# Altium footprint library WCAM-BREAKOUT-PCB-R03.PcbLib: 19 footprints (part 1 of 2)
Each footprint in its own frame and in the unit in brackets; x right, y up, seen from the top. Pads: shape width x height; smd on the part's side, far side on the other; paste and mask are expansions set on the pad; w line width, h text height; cw(c..) or ccw(c..) is an arc to the next point about the centre after c.
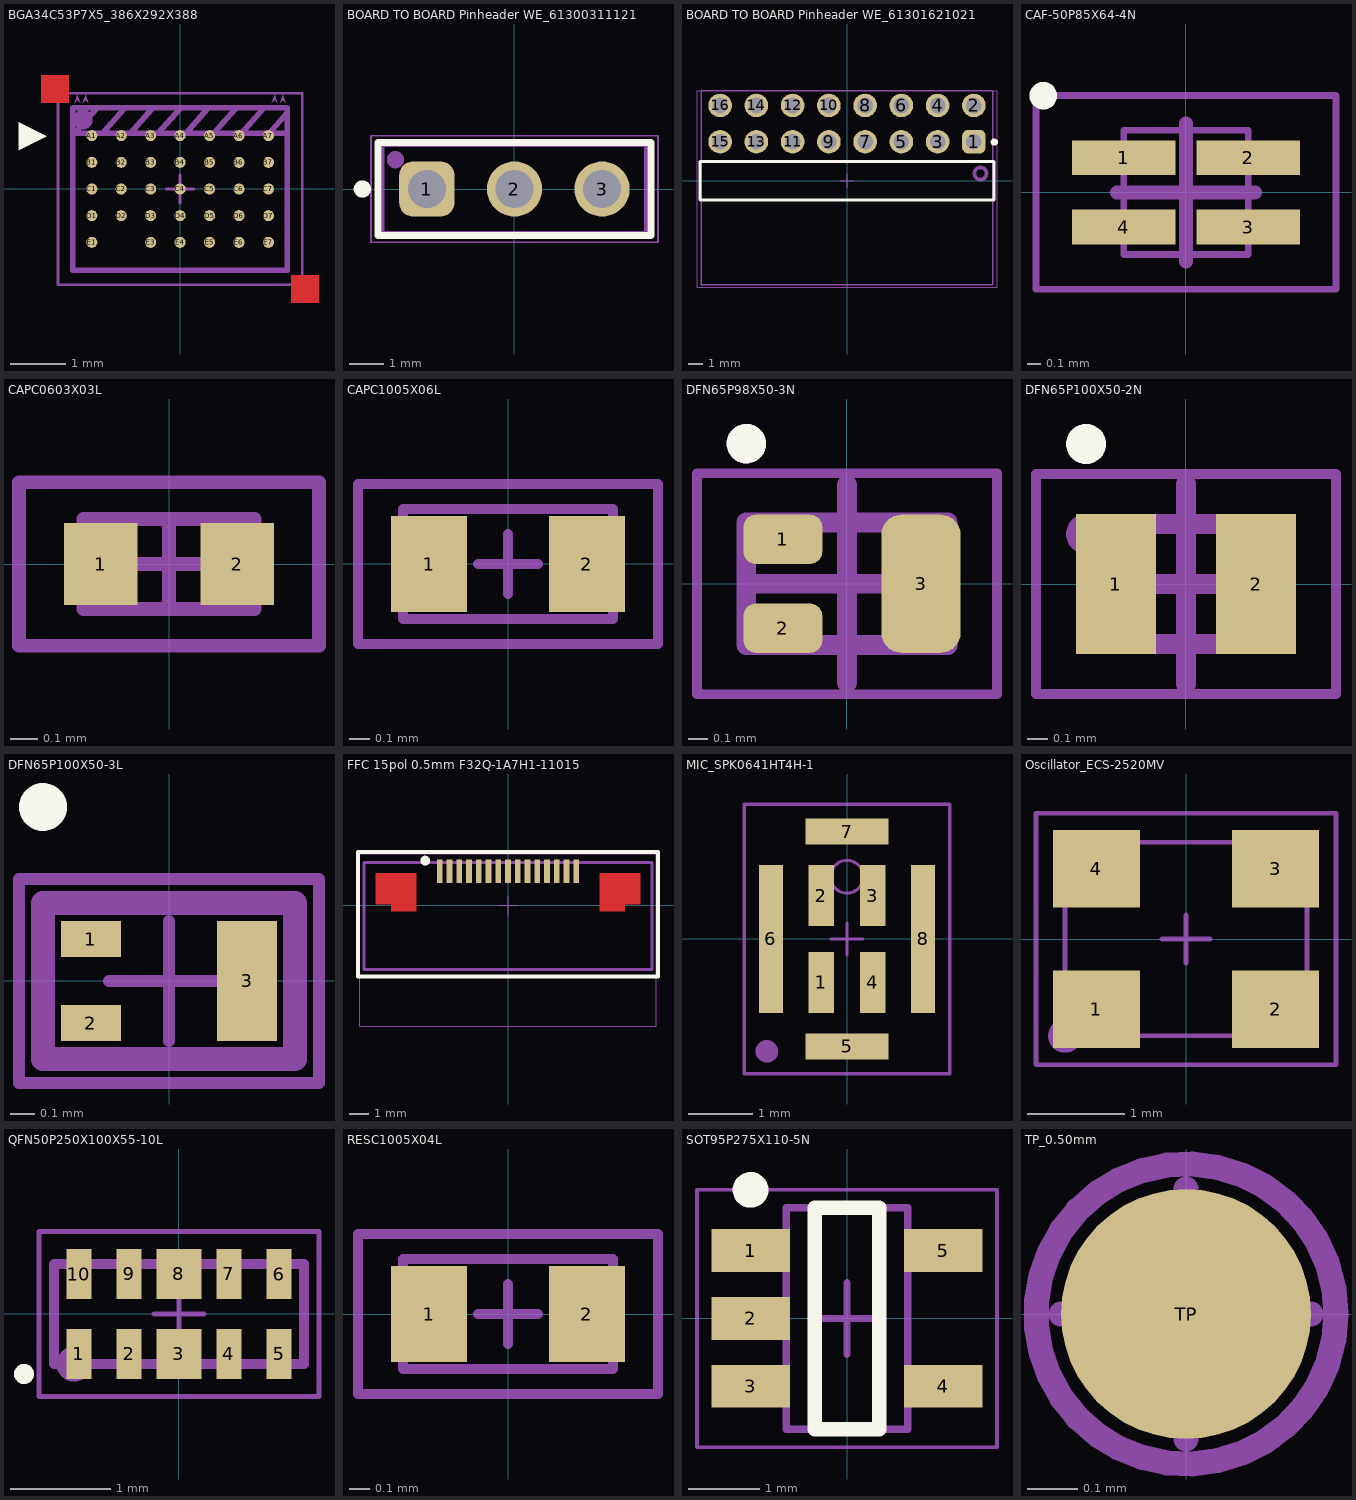
[diagram p0: the footprints below, top view; thin cyan lines are the x and y axes]

## BGA34C53P7X5_386X292X388 [mm] "BGA, 34-Leads, Body 3,86x2,92mmx3,88mm, Pitch 0,53mm"
height 3.88
pads (34):
  round 0.2 smd: A1(-1.59,0.96) A2(-1.06,0.96) A3(-0.53,0.96) A4(0,0.96) A5(0.53,0.96) A6(1.06,0.96) A7(1.59,0.96) B1(-1.59,0.48) B2(-1.06,0.48) B3(-0.53,0.48) B4(0,0.48) B5(0.53,0.48) B6(1.06,0.48) B7(1.59,0.48) C1(-1.59,0) C2(-1.06,0) C3(-0.53,0) C4(0,0) C5(0.53,0) C6(1.06,0) C7(1.59,0) D1(-1.59,-0.48) D2(-1.06,-0.48) D3(-0.53,-0.48) D4(0,-0.48) D5(0.53,-0.48) D6(1.06,-0.48) D7(1.59,-0.48) E1(-1.59,-0.96) E3(-0.53,-0.96) E4(0,-0.96) E5(0.53,-0.96) E6(1.06,-0.96) E7(1.59,-0.96)
Top Layer:
  region: -2.5,2.05 -2.5,1.55 -2,1.55 -2,2.05
  region: 2,-1.55 2,-2.05 2.5,-2.05 2.5,-1.55
Top Overlay:
  region: -2.4,0.95 -2.9,1.2 -2.9,0.7
Top 3D Body:
  region: 1.7,1.7 1.75,1.55 1.7,1.6 1.65,1.55
  region: 1.85,1.7 1.9,1.55 1.85,1.6 1.8,1.55
  region: -1.7,1.7 -1.75,1.55 -1.7,1.6 -1.65,1.55
  region: -1.85,1.7 -1.9,1.55 -1.85,1.6 -1.8,1.55
  lines w0.1: -1.5,1.45 -1.9,1 1.93,1 ; -1.4,1 -1,1.45 ; -0.9,1 -0.5,1.45 ; -0.4,1 0,1.45 ; 0.1,1 0.5,1.45 ; 0.6,1 1,1.45 ; 1.1,1 1.5,1.45 ; 1.6,1 1.93,1.371 ; -1.93,-1.46 1.93,-1.46 1.93,1.46 -1.93,1.46 -1.93,-1.46
  text "PLACE TOWARS BOTTOM PCB EDGE" at 1.6,1.7 h0.2
Top Courtyard:
  lines w0.05: -0.25,0 0.25,0 ; 0,-0.25 0,0.25 ; -2.2,-1.725 2.2,-1.725 2.2,1.725 -2.2,1.725 -2.2,-1.725
Top Assembly:
  circle w0.25: c-1.75,1.25 r0.05
  lines w0.05: -2.2,-1.725 2.2,-1.725 2.2,1.725 -2.2,1.725 -2.2,-1.725
  text ".Designator" at -1.6,-0.4 h1
3D body "Image Sensor OV2740.stp": height 0.72, standoff 0, extent -1.93,-1.46 1.925,1.459

## BOARD TO BOARD Pinheader WE_61300311121 [mm] "Pin Header, pitch 2.54 mm, THT, Vertical, single row, 3p"
height 8.54
pads (3):
  rrect50% 1.6x1.6 hole 1.1: 1(-2.54,0)
  round 1.6 hole 1.1: 2(0,0) 3(2.54,0)
Top Overlay:
  circle w0.25: c-4.41,0 r0.125
  lines w0.2: -3.96,-1.345 3.96,-1.345 3.96,1.345 -3.96,1.345 -3.96,-1.345
Top Courtyard:
  lines w0.05: -0.5,0 0.5,0 ; 0,-0.5 0,0.5 ; -4.16,-1.545 -4.16,1.545 4.16,1.545 4.16,-1.545 -4.16,-1.545
Top Assembly:
  circle w0.25: c-3.45,0.85 r0.125
  lines w0.1: -3.81,-1.27 -3.81,1.27 3.81,1.27 3.81,-1.27 -3.81,-1.27
  text ".Designator" at -7.498,-0.5 h1.5
3D body "61300311121.stp": height 8.57, standoff -2.97, extent -3.81,-1.27 3.81,1.27

## BOARD TO BOARD Pinheader WE_61301621021 [mm] "Pin Header, pitch 2.54 mm, THT, Angled, dual row, 16p"
height 5.08
pads (16):
  rrect50% 1.65x1.65 hole 1.1: 1(8.89,2.73)
  round 1.65 hole 1.1: 2(8.89,5.27) 3(6.35,2.73) 4(6.35,5.27) 5(3.81,2.73) 6(3.81,5.27) 7(1.27,2.73) 8(1.27,5.27) 9(-1.27,2.73) 10(-1.27,5.27) 11(-3.81,2.73) 12(-3.81,5.27) 13(-6.35,2.73) 14(-6.35,5.27) 15(-8.89,2.73) 16(-8.89,5.27)
Top Overlay:
  circle w0.25: c10.32,2.7 r0.125
  lines w0.2: -10.31,-1.345 10.31,-1.345 10.31,1.345 -10.31,1.345 -10.31,-1.345
Top Courtyard:
  lines w0.05: -0.5,0 0.5,0 ; 0,-0.5 0,0.5 ; -10.51,-7.47 -10.51,6.295 10.51,6.295 10.51,-7.47 -10.51,-7.47
Top Assembly:
  circle w0.254: c9.35,0.5 r0.424
  lines w0.1: -10.2,-7.3 -10.2,6.3 10.2,6.3 10.2,-7.3 -10.2,-7.3
  text ".Designator" at 7.498,-0.5 h1.5
3D body "61301621021.stp": height 5.12, standoff -2.96, extent -10.16,-7.27 10.16,5.63

## CAF-50P85X64-4N [mm] "Chip Array, Flat, 4-Leads, Pitch 0,50mm,  Body 0,85x0,65mm,  IPC Medium Density"
height 0.5
pads (4):
  rect 0.75x0.25 smd: 1(-0.45,0.25) 2(0.45,0.25) 3(0.45,-0.25) 4(-0.45,-0.25)
Top Overlay:
  circle w0.1: c-1.032,0.7 r0.05
Top Courtyard:
  lines w0.05: -1.085,-0.7 1.085,-0.7 1.085,0.7 -1.085,0.7 -1.085,-0.7
  lines w0.1: -0.5,0 0.5,0 ; 0,-0.5 0,0.5
Top Assembly:
  circle w0.1: c-0.65,0.25 r0.05
  lines w0.05: -0.45,-0.45 0.45,-0.45 0.45,0.45 -0.45,0.45 -0.45,-0.45
  text ".Designator" at -0.574,-0.414 h0.25
3D body "CAF-50P85X64-4N.step": height 0.5, standoff 0, extent -0.4,-0.45 0.4,0.45

## CAPC0603X03L [mm] "Chip Capacitor, 2-Leads, Body 0,60x0,30mm, IPC High Density"
height 0.33
pads (2):
  rect 0.27x0.3 smd paste-0.5: 1(-0.25,0) 2(0.25,0)
Top Paste:
  region: 0.25,-0.13 0.224,-0.13 0.176,-0.111 0.139,-0.074 0.12,-0.026 0.12,0 0.12,0.026 0.139,0.074 0.176,0.111 0.224,0.13 0.25,0.13 0.276,0.13 0.324,0.111 0.361,0.074 0.38,0.026 0.38,0 0.38,-0.026 0.361,-0.074 0.324,-0.111 0.276,-0.13
  region: -0.25,-0.13 -0.276,-0.13 -0.324,-0.111 -0.361,-0.074 -0.38,-0.026 -0.38,0 -0.38,0.026 -0.361,0.074 -0.324,0.111 -0.276,0.13 -0.25,0.13 -0.224,0.13 -0.176,0.111 -0.139,0.074 -0.12,0.026 -0.12,0 -0.12,-0.026 -0.139,-0.074 -0.176,-0.111 -0.224,-0.13
Top 3D Body:
  lines w0.05: -0.315,-0.165 0.315,-0.165 0.315,0.165 -0.315,0.165 -0.315,-0.165
Top Courtyard:
  lines w0.05: -0.15,0 0,0 ; 0,-0.15 0,0 ; 0,0.15 0,0 ; 0.15,0 0,0 ; -0.55,-0.3 0.55,-0.3 0.55,0.3 -0.55,0.3 -0.55,-0.3
Top Assembly:
  lines w0.05: -0.55,-0.3 -0.55,0.3 0.55,0.3 0.55,-0.3 -0.55,-0.3
  text ".Designator" at 0.7,0.1 h0.3
3D body "CAP_0201_m0603.stp": height 0.3, standoff 0, extent -0.3,-0.15 0.3,0.15

## CAPC1005X06L [mm] "Chip Capacitor, 2-Leads, Body 1,00x0,50mm, IPC High Density"
height 0.55
pads (2):
  rect 0.38x0.48 smd: 1(-0.395,0) 2(0.395,0)
Top 3D Body:
  lines w0.05: -0.525,-0.275 -0.525,0.275 0.525,0.275 0.525,-0.275 -0.525,-0.275
Top Courtyard:
  lines w0.05: -0.15,0 0.15,0 ; 0,-0.15 0,0.15 ; -0.75,-0.4 -0.75,0.4 0.75,0.4 0.75,-0.4 -0.75,-0.4
Top Assembly:
  lines w0.05: -0.75,-0.4 -0.75,0.4 0.75,0.4 0.75,-0.4 -0.75,-0.4
  text ".Designator" at -1.143,-0.207 h0.5
3D body "CAP_0402_m1005.stp": height 0.5, standoff 0, extent -0.5,-0.25 0.5,0.25

## DFN65P98X50-3N [mm] "DFN, 3-Leads, Body 0,59x0,99mm, Pitch 0,65mm, IPC Medium Density"
height 0.5
pads (3):
  rrect50% 0.4x0.25 smd paste-2539.97 mask-2539.97: 1(-0.325,0.225) 2(-0.325,-0.225)
  rrect50% 0.4x0.7 smd paste-2539.97 mask-2539.97: 3(0.375,0)
Top Overlay:
  circle w0.1: c-0.51,0.71 r0.05
Top Paste:
  region: -0.412,-0.35 -0.425,-0.35 -0.448,-0.34 -0.465,-0.323 -0.475,-0.3 -0.475,-0.288 -0.475,-0.162 -0.475,-0.15 -0.465,-0.127 -0.448,-0.11 -0.425,-0.1 -0.412,-0.1 -0.237,-0.1 -0.225,-0.1 -0.202,-0.11 -0.185,-0.127 -0.175,-0.15 -0.175,-0.162 -0.175,-0.288 -0.175,-0.3 -0.185,-0.323 -0.202,-0.34 -0.225,-0.35 -0.237,-0.35
  region: -0.412,0.1 -0.425,0.1 -0.448,0.11 -0.465,0.127 -0.475,0.15 -0.475,0.162 -0.475,0.288 -0.475,0.3 -0.465,0.323 -0.448,0.34 -0.425,0.35 -0.412,0.35 -0.237,0.35 -0.225,0.35 -0.202,0.34 -0.185,0.323 -0.175,0.3 -0.175,0.288 -0.175,0.162 -0.175,0.15 -0.185,0.127 -0.202,0.11 -0.225,0.1 -0.237,0.1
  region: 0.175,-0.2 0.175,0.2 0.175,0.22 0.19,0.257 0.218,0.285 0.255,0.3 0.275,0.3 0.475,0.3 0.495,0.3 0.532,0.285 0.56,0.257 0.575,0.22 0.575,0.2 0.575,-0.2 0.575,-0.22 0.56,-0.257 0.532,-0.285 0.495,-0.3 0.475,-0.3 0.275,-0.3 0.255,-0.3 0.218,-0.285 0.19,-0.257 0.175,-0.22
Top Solder:
  region: -0.55,-0.375 -0.55,-0.075 -0.1,-0.075 -0.1,-0.375
  region: -0.55,0.075 -0.55,0.375 -0.1,0.375 -0.1,0.075
  region: 0.15,-0.375 0.15,0.375 0.6,0.375 0.6,-0.375
Top Courtyard:
  lines w0.05: -0.76,-0.56 -0.76,0.56 0.76,0.56 0.76,-0.56 -0.76,-0.56
  lines w0.1: -0.5,0 0.5,0 ; 0,-0.5 0,0.5 ; -0.51,-0.31 -0.51,0.31 0.51,0.31 0.51,-0.31 -0.51,-0.31
Top Assembly:
  circle w0.1: c-0.51,0.71 r0.05
  lines w0.05: -0.76,-0.56 -0.76,0.56 0.76,0.56 0.76,-0.56 -0.76,-0.56
  text ".Designator" at 1.148,0.208 h0.5
3D body "DFN65P98X50-3N.step": height 0.5, standoff 0, extent -0.51,-0.31 0.51,0.31

## DFN65P100X50-2N [mm] "DFN, 2-Leads, Body 0,60x1,00mm, Pitch 0,65mm, IPC Medium Density"
height 0.5
pads (2):
  rect 0.4x0.7 smd: 1(-0.35,0) 2(0.35,0)
Top Overlay:
  circle w0.1: c-0.5,0.7 r0.05
Top 3D Body:
  lines w0.1: -0.5,-0.3 -0.5,0.3 0.5,0.3 0.5,-0.3 -0.5,-0.3
Top Courtyard:
  lines w0.05: -0.75,-0.55 -0.75,0.55 0.75,0.55 0.75,-0.55 -0.75,-0.55
  lines w0.1: -0.5,0 0.5,0 ; 0,-0.5 0,0.5
Top Assembly:
  circle w0.1: c-0.5,0.25 r0.05
  lines w0.05: -0.75,-0.55 0.75,-0.55 ; -0.75,-0.55 -0.75,0.55 ; -0.75,-0.55 0.75,-0.55 ; -0.75,-0.55 -0.75,0.55 ; -0.75,0.55 0.75,0.55 ; -0.75,0.55 0.75,0.55 ; 0.75,-0.55 0.75,0.55 ; 0.75,-0.55 0.75,0.55
  text ".Designator" at -1.25,-0.083 h0.25
3D body "DFN65P100X50-2N.step": height 0.5, standoff 0, extent -0.5,-0.3 0.5,0.3

## DFN65P100X50-3L [mm] "DFN, 3-Leads, Body 0,60x1,00mm, Pitch 0,65mm, IPC High Density"
height 0.5
pads (3):
  rect 0.25x0.15 smd paste-2539.97 mask+0.05: 1(-0.325,0.175) 2(-0.325,-0.175)
  rect 0.25x0.5 smd paste-2539.97 mask+0.05: 3(0.325,0)
Top Overlay:
  circle w0.1: c-0.525,0.725 r0.05
Top Paste:
  region: 0.209,-0.159 0.209,0.159 0.209,0.167 0.215,0.182 0.227,0.194 0.242,0.2 0.25,0.2 0.4,0.2 0.408,0.2 0.423,0.194 0.435,0.182 0.441,0.167 0.441,0.159 0.441,-0.159 0.441,-0.167 0.435,-0.182 0.423,-0.194 0.408,-0.2 0.4,-0.2 0.25,-0.2 0.242,-0.2 0.227,-0.194 0.215,-0.182 0.209,-0.167
  region: -0.45,0.15 -0.45,0.2 -0.45,0.21 -0.442,0.228 -0.428,0.242 -0.41,0.25 -0.4,0.25 -0.25,0.25 -0.24,0.25 -0.222,0.242 -0.208,0.228 -0.2,0.21 -0.2,0.2 -0.2,0.15 -0.2,0.14 -0.208,0.122 -0.222,0.108 -0.24,0.1 -0.25,0.1 -0.4,0.1 -0.41,0.1 -0.428,0.108 -0.442,0.122 -0.45,0.14
  region: -0.45,-0.2 -0.45,-0.15 -0.45,-0.14 -0.442,-0.122 -0.428,-0.108 -0.41,-0.1 -0.4,-0.1 -0.25,-0.1 -0.24,-0.1 -0.222,-0.108 -0.208,-0.122 -0.2,-0.14 -0.2,-0.15 -0.2,-0.2 -0.2,-0.21 -0.208,-0.228 -0.222,-0.242 -0.24,-0.25 -0.25,-0.25 -0.4,-0.25 -0.41,-0.25 -0.428,-0.242 -0.442,-0.228 -0.45,-0.21
Top 3D Body:
  lines w0.1: -0.525,-0.325 -0.525,0.325 0.525,0.325 0.525,-0.325 -0.525,-0.325
Top Courtyard:
  lines w0.05: -0.25,0 0.25,0 ; 0,-0.25 0,0.25 ; -0.625,-0.425 -0.625,0.425 0.625,0.425 0.625,-0.425 -0.625,-0.425
Top Assembly:
  lines w0.05: -0.625,-0.425 0.625,-0.425 0.625,0.425 -0.625,0.425 -0.625,-0.425
  text ".Designator" at 1.173,0.158 h0.5
3D body "CST3.stp": height 0.38, standoff 0, extent -0.5,-0.3 0.5,0.3

## FFC 15pol 0.5mm F32Q-1A7H1-11015 [mm] "Flex Connector, 0.50mm Pitch, Height 2.00mm, Right angle, Slider type, ZIF, Upper contact, 15 position , Without MYLAR"
height 10.45
pads (17):
  rect 0.3x1.2 smd: 1(-3.5,1.75) 2(-3,1.75) 3(-2.5,1.75) 4(-2,1.75) 5(-1.5,1.75) 6(-1,1.75) 7(-0.5,1.75) 8(0,1.75) 9(0.5,1.75) 10(1,1.75) 11(1.5,1.75) 12(2,1.75) 13(2.5,1.75) 14(3,1.75) 15(3.5,1.75)
  round 0.025 smd: MT(-5.75,0.675) MT(5.75,0.675)
Top Layer:
  region: 4.7,-0.3 4.7,1.65 6.8,1.65 6.8,0.05 6,0.05 6,-0.3
  region: -6.8,0.05 -6.8,1.65 -4.7,1.65 -4.7,-0.3 -6,-0.3 -6,0.05
Top Overlay:
  circle w0.25: c-4.25,2.3 r0.125
  lines w0.2: -7.7,-3.65 -7.7,2.75 7.7,2.75 7.7,-3.65 -7.7,-3.65
Top 3D Body:
  lines w0.15: -7.4,-3.3 7.4,-3.3 7.4,2.2 -7.4,2.2 -7.4,-3.3
Top Courtyard:
  lines w0.05: -0.5,0 0.5,0 ; 0,-0.5 0,0.5 ; -7.6,-6.2 7.6,-6.2 7.6,2.65 -7.6,2.65 -7.6,-6.2
Top Assembly:
  lines w0.15: -7.4,-3.3 7.4,-3.3 7.4,2.2 -7.4,2.2 -7.4,-3.3
  text ".Designator" at -7.498,-0.5 h1.5
3D body "F32Q-1A7H1-11015--3DModel-STEP-56544.STEP": height 2.05, standoff 0, extent -7.4,-3.3 7.4,2.2

## MIC_SPK0641HT4H-1 [mm] "Digital SiSonic Microphone"
height 1
pads (8):
  rect 0.4x0.95 smd: 1(-0.4,-0.675) 2(-0.4,0.675) 3(0.4,0.675) 4(0.4,-0.675)
  rect 1.3x0.4 smd: 5(0,-1.675) 7(0,1.675)
  rect 0.375x2.3 smd: 6(-1.188,0) 8(1.188,0)
Top 3D Body:
  circle w0.05: c0,0.97 r0.255
  text "PORT" at 0.25,1.35 h0.5
Top Courtyard:
  lines w0.05: -0.25,0 0.25,0 ; 0,-0.25 0,0.25 ; -1.6,-2.1 1.6,-2.1 1.6,2.1 -1.6,2.1 -1.6,-2.1
Top Assembly:
  circle w0.25: c-1.25,-1.75 r0.05
  lines w0.05: -1.6,-2.1 1.6,-2.1 1.6,2.1 -1.6,2.1 -1.6,-2.1
  text ".Designator" at -0.35,0.6 h1
3D body "Microphone SPK0641HT4H-1.stp": height 1.02, standoff 0, extent -1.5,-2 1.5,2

## Oscillator_ECS-2520MV [mm] "miniature SMD HCMOS Oscillator with MultiVolt capability"
height 0.9
pads (4):
  rect 0.9x0.8 smd: 1(-0.925,-0.725) 2(0.925,-0.725) 3(0.925,0.725) 4(-0.925,0.725)
Top 3D Body:
  lines w0.05: -1.25,-1 -1.25,1 1.25,1 1.25,-1 -1.25,-1
Top Courtyard:
  lines w0.05: -0.25,0 0.25,0 ; 0,-0.25 0,0.25 ; -1.55,-1.3 -1.55,1.3 1.55,1.3 1.55,-1.3 -1.55,-1.3
Top Assembly:
  circle w0.25: c-1.25,-1 r0.05
  lines w0.05: -1.55,-1.3 -1.55,1.3 1.55,1.3 1.55,-1.3 -1.55,-1.3
  text ".Designator" at 0.475,0.325 h1
3D body "Oscillator ECS-2520MV.stp": height 0.9, standoff 0, extent -1.25,-1 1.25,1

## QFN50P250X100X55-10L [mm] "QFN, 10-Leads, Body 2,50x1,00mm, Pitch 0,50mm, IPC High Density"
height 0.55
pads (10):
  rect 0.25x0.5 smd: 1(-1,-0.4) 2(-0.5,-0.4) 4(0.5,-0.4) 5(1,-0.4) 6(1,0.4) 7(0.5,0.4) 9(-0.5,0.4) 10(-1,0.4)
  rect 0.45x0.5 smd: 3(0,-0.4) 8(0,0.4)
Top Overlay:
  circle w0.1: c-1.55,-0.6 r0.05
Top 3D Body:
  lines w0.1: -1.25,-0.5 -1.25,0.5 1.25,0.5 1.25,-0.5 -1.25,-0.5
Top Courtyard:
  lines w0.05: -0.25,0 0.25,0 ; 0,-0.25 0,0.25 ; -1.4,-0.825 -1.4,0.825 1.4,0.825 1.4,-0.825 -1.4,-0.825
Top Assembly:
  circle w0.25: c-1.05,-0.5 r0.05
  lines w0.05: -1.4,-0.825 1.4,-0.825 1.4,0.825 -1.4,0.825 -1.4,-0.825
  text ".Designator" at 0.208,-1.148 h0.5
3D body: height 0.55, standoff 0.01, extent -1.25,-0.5 1.25,0.5

## RESC1005X04L [mm] "Chip Resistor, 2-Leads, Body 1,00x0,53mm, IPC High Density"
height 0.4
pads (2):
  rect 0.38x0.48 smd: 1(-0.395,0) 2(0.395,0)
Top 3D Body:
  lines w0.05: -0.525,-0.275 -0.525,0.275 0.525,0.275 0.525,-0.275 -0.525,-0.275
Top Courtyard:
  lines w0.05: -0.15,0 0.15,0 ; 0,-0.15 0,0.15 ; -0.75,-0.4 -0.75,0.4 0.75,0.4 0.75,-0.4 -0.75,-0.4
Top Assembly:
  lines w0.05: -0.75,-0.4 -0.75,0.4 0.75,0.4 0.75,-0.4 -0.75,-0.4
  text ".Designator" at -1.143,-0.207 h0.5
3D body "RES 0402 (1005 metric).STEP": height 0.4, standoff 0, extent -0.525,-0.275 0.525,0.275

## SOT95P275X110-5N [mm] "SOT23, 5-Leads, Body 2,90x2,75mm, Pitch 0,95mm, IPC Medium Density"
height 1.1
pads (5):
  rect 1.1x0.6 smd: 1(-1.35,0.95) 2(-1.35,0) 3(-1.35,-0.95) 4(1.35,-0.95) 5(1.35,0.95)
Top Overlay:
  circle w0.25: c-1.35,1.8 r0.125
  lines w0.2: -0.45,-1.55 -0.45,1.55 0.45,1.55 0.45,-1.55 -0.45,-1.55
Top Courtyard:
  lines w0.05: -2.1,-1.8 2.1,-1.8 2.1,1.8 -2.1,1.8 -2.1,-1.8
  lines w0.1: -0.5,0 0.5,0 ; 0,-0.5 0,0.5
Top Assembly:
  lines w0.1: -0.85,-1.55 0.85,-1.55 0.85,1.55 -0.85,1.55 -0.85,-1.55
  text ".Designator" at 0.25,-3.749 h0.75
3D body "SOT95P275X110-5N.step": height 1.1, standoff 0, extent -1.5,-1.55 1.5,1.55

## TP_0.50mm [mm] "Testpoint 0.50mm diameter"
height 0.1
pads (1):
  round 0.5 smd paste-1: TP(0,0)
Top Courtyard:
  circle w0.05: c0,0 r0.3
  lines w0.05: -0.25,0 0.25,0 ; 0,-0.25 0,0.25
Top Assembly:
  circle w0.05: c0,0 r0.3
  text ".Designator" at -0.104,0.564 h0.25
3D body: height 0.1, standoff 0, extent -0.2,-0.2 0.2,0.2